# Altium schematic symbol library octopus_sch_lib.SchLib: 9 symbols
Pins are listed as number, name and electrical type; pins without a type are passive.

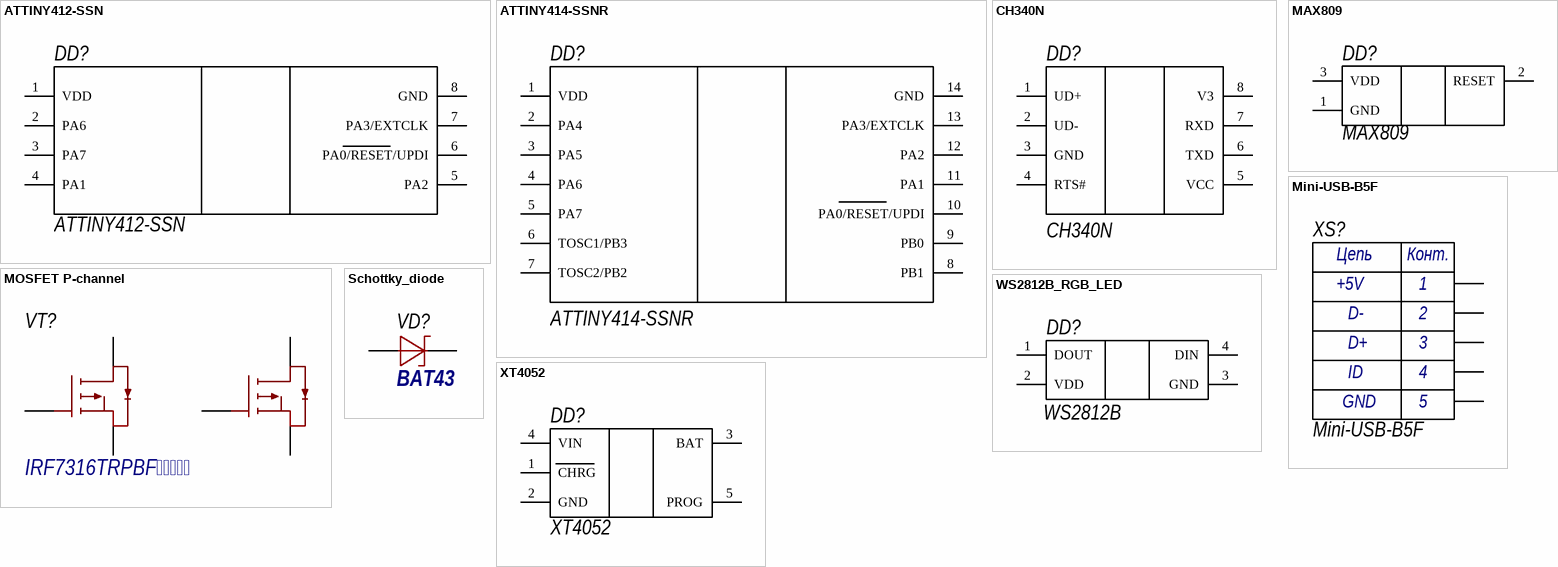
[diagram p0: symbols ATTINY412-SSN to XT4052]

## ATTINY412-SSN
designator DD?
footprint SOIC-8 (SOIC, 8-Leads, Body 4.90x3.90mm, Pitch 1.27mm, IPC Low Density)
pins: 1 VDD, 2 PA6, 3 PA7, 4 PA1, 5 PA2, 6 PA0/RESET/UPDI, 7 PA3/EXTCLK, 8 GND

## ATTINY414-SSNR
designator DD?
footprint SOIC-14 (ATTINY414-SSNR, Микроконтроллер AVR, 8-Бит, 20МГц, 4КБ Flash, 12 I/O [SOIC-14])
pins: 1 VDD, 2 PA4, 3 PA5, 4 PA6, 5 PA7, 6 TOSC1/PB3, 7 TOSC2/PB2, 8 PB1, 9 PB0, 10 PA0/RESET/UPDI, 11 PA1, 12 PA2, 13 PA3/EXTCLK, 14 GND

## CH340N
designator DD?
footprint SOIC-8 (SOIC, 8-Leads, Body 4.90x3.90mm, Pitch 1.27mm, IPC Low Density)
pins: 1 UD+, 2 UD-, 3 GND, 4 RTS#, 5 VCC, 6 TXD, 7 RXD, 8 V3

## MAX809
designator DD?
footprint FP-C04-104-TT-MFG
pins: 1 GND, 2 RESET, 3 VDD

## Mini-USB-B5F
designator XS?
footprint KLS1-229-5FA (Mini-USB-B5F PCB Right Angle. DIP Type.)
pins: 1, 2, 3, 4, 5
text: Цепь; Конт.; +5V; D-; D+; ID; GND

## MOSFET P-channel
designator VT?, comment IRF7316TRPBF
Сборка из полевых транзисторов, 2P-канальный, 30 В, 4.9 А, 2Вт; Part Number: ZVP2106A
footprint SO-8 (SOP, 8-Leads, Body 5.21x3.95mm, Pitch 1.27mm, IPC Low Density)
pins: 1, 2, 3, 4, 6, 8

## Schottky_diode
designator VD?, comment BAT43
BAT43, Диод Шоттки, 0.2А, 30В [DO-35_Glass.]; Voltage (V): 30; Current: 0.2 A; Part Number: BAT43
footprint DO-35 Diode
pins: 1, 2

## WS2812B_RGB_LED
designator DD?, comment WS2812B
footprint LED RGB (5mm RGB LED)
footprint LED RGB horizontal (5mm RGB LED)
pins: 1 DOUT, 2 VDD, 3 GND, 4 DIN

## XT4052
designator DD?
footprint FP-SOT23-5LD-PL-1-IPC_A
pins: 1 CHRG, 2 GND, 3 BAT, 4 VIN, 5 PROG